# EAGLE library part TB6614FNG,C,EL (library SamacSys_Parts)
Motor / Motion / Ignition Controllers & Drivers BRUSH MOTOR DRIVER IC Source: Datasheet <https://toshiba.semicon-storage.com/info/docget.jsp?did=9948&prodName=TB6614FNG>
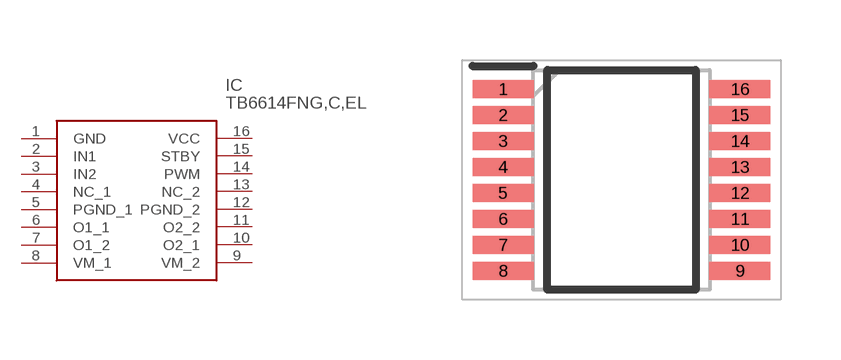
[diagram p3: symbol with the pads of SOP65P640X160-16N; footprint SOP65P640X160-16N]

Designator prefix IC

## TB6614FNG,C,EL (DESCRIPTION: Motor / Motion / Ignition Controllers & Drivers BRUSH MOTOR DRIVER IC; HEIGHT: 1.6mm; MANUFACTURER_NAME: Toshiba; MANUFACTURER_PART_NUMBER: TB6614FNG,C,EL; MOUSER_PART_NUMBER: 757-TB6614FNGCEL; MOUSER_PRICE-STOCK: https://www.mouser.com/Search/Refine.aspx?Keyword=757-TB6614FNGCEL; RS_PART_NUMBER: 757-TB6614FNGCEL; RS_PRICE-STOCK: https://www.mouser.com/Search/Refine.aspx?Keyword=757-TB6614FNGCEL)  [SOP65P640X160-16N]
1  GND
2  IN1
3  IN2
4  NC_1
5  PGND_1
6  O1_1
7  O1_2
8  VM_1
9  VM_2
10  O2_1
11  O2_2
12  PGND_2
13  NC_2
14  PWM
15  STBY
16  VCC

## Footprint SOP65P640X160-16N (pad centres in mm)
SSOP16-P-225_0.65B
smd 1.525 x 0.45: 1 -2.962,2.275; 2 -2.962,1.625; 3 -2.962,0.975; 4 -2.962,0.325; 5 -2.962,-0.325; 6 -2.962,-0.975; 7 -2.962,-1.625; 8 -2.962,-2.275; 9 2.962,-2.275; 10 2.962,-1.625; 11 2.962,-0.975; 12 2.962,-0.325; 13 2.962,0.325; 14 2.962,0.975; 15 2.962,1.625; 16 2.962,2.275